# Altium integrated library WE-CST_rev15a.intlib: 8 symbols
Pins are listed as number, name and electrical type; pins without a type are passive.

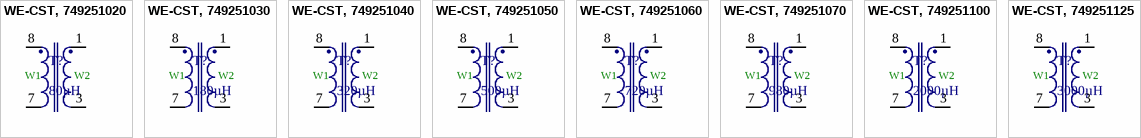
[diagram p0: symbols WE-CST, 749251020 to WE-CST, 749251125]

## WE-CST, 749251020
designator T?, comment 80µH
Current Sense Transformer WE-CST , L=80µH; PartNo: 749251020; Manufacturer: Würth Elektronik eiSos GmbH; Turns Ratio: 1:20; Nominal Current: 10A; Inductance: 80µH; ComponentLink1Description: Manufacturer; ComponentLink1URL: http://www.we-online.de; Created by: Otto Christin; Created Date: OCT 2013; ComponentLink2Description: Datasheet; ComponentLink2URL: http://www.we-online.de/katalog/media/pdf/749251020.pdf
footprint EE5 (SMD, 6-Leads, Body 7.2x6.0mm (max), Pitch 1.85mm, IPC Medium Density)
pins: 1, 3, 7, 8
text: W1; W2

## WE-CST, 749251030
designator T?, comment 180µH
Current Sense Transformer WE-CST , L=180µH; PartNo: 749251030; Manufacturer: Würth Elektronik eiSos GmbH; Turns Ratio: 1:30; Nominal Current: 10A; Inductance: 180µH; ComponentLink1Description: Manufacturer; ComponentLink1URL: http://www.we-online.de; Created by: Otto Christin; Created Date: OCT 2013; ComponentLink2Description: Datasheet; ComponentLink2URL: http://www.we-online.de/katalog/media/pdf/749251030.pdf
footprint EE5 (SMD, 6-Leads, Body 7.2x6.0mm (max), Pitch 1.85mm, IPC Medium Density)
pins: 1, 3, 7, 8
text: W1; W2

## WE-CST, 749251040
designator T?, comment 320µH
Current Sense Transformer WE-CST , L=320µH; PartNo: 749251040; Manufacturer: Würth Elektronik eiSos GmbH; Turns Ratio: 1:40; Nominal Current: 10A; Inductance: 320µH; ComponentLink1Description: Manufacturer; ComponentLink1URL: http://www.we-online.de; Created by: Otto Christin; Created Date: OCT 2013; ComponentLink2Description: Datasheet; ComponentLink2URL: http://www.we-online.de/katalog/media/pdf/749251040.pdf
footprint EE5 (SMD, 6-Leads, Body 7.2x6.0mm (max), Pitch 1.85mm, IPC Medium Density)
pins: 1, 3, 7, 8
text: W1; W2

## WE-CST, 749251050
designator T?, comment 500µH
Current Sense Transformer WE-CST , L=500µH; PartNo: 749251050; Manufacturer: Würth Elektronik eiSos GmbH; Turns Ratio: 1:50; Nominal Current: 10A; Inductance: 500µH; ComponentLink1Description: Manufacturer; ComponentLink1URL: http://www.we-online.de; Created by: Otto Christin; Created Date: OCT 2013; ComponentLink2Description: Datasheet; ComponentLink2URL: http://www.we-online.de/katalog/media/pdf/749251050.pdf
footprint EE5 (SMD, 6-Leads, Body 7.2x6.0mm (max), Pitch 1.85mm, IPC Medium Density)
pins: 1, 3, 7, 8
text: W1; W2

## WE-CST, 749251060
designator T?, comment 720µH
Current Sense Transformer WE-CST , L=720µH; PartNo: 749251060; Manufacturer: Würth Elektronik eiSos GmbH; Turns Ratio: 1:60; Nominal Current: 10A; Inductance: 720µH; ComponentLink1Description: Manufacturer; ComponentLink1URL: http://www.we-online.de; Created by: Otto Christin; Created Date: OCT 2013; ComponentLink2Description: Datasheet; ComponentLink2URL: http://www.we-online.de/katalog/media/pdf/749251060.pdf
footprint EE5 (SMD, 6-Leads, Body 7.2x6.0mm (max), Pitch 1.85mm, IPC Medium Density)
pins: 1, 3, 7, 8
text: W1; W2

## WE-CST, 749251070
designator T?, comment 980µH
Current Sense Transformer WE-CST , L=980µH; PartNo: 749251070; Manufacturer: Würth Elektronik eiSos GmbH; Turns Ratio: 1:70; Nominal Current: 10A; Inductance: 980µH; ComponentLink1Description: Manufacturer; ComponentLink1URL: http://www.we-online.de; Created by: Otto Christin; Created Date: OCT 2013; ComponentLink2Description: Datasheet; ComponentLink2URL: http://www.we-online.de/katalog/media/pdf/749251070.pdf
footprint EE5 (SMD, 6-Leads, Body 7.2x6.0mm (max), Pitch 1.85mm, IPC Medium Density)
pins: 1, 3, 7, 8
text: W1; W2

## WE-CST, 749251100
designator T?, comment 2000µH
Current Sense Transformer WE-CST , L=2000µH; PartNo: 749251100; Manufacturer: Würth Elektronik eiSos GmbH; Turns Ratio: 1:100; Nominal Current: 10A; Inductance: 2000µH; ComponentLink1Description: Manufacturer; ComponentLink1URL: http://www.we-online.de; Created by: Otto Christin; Created Date: OCT 2013; ComponentLink2Description: Datasheet; ComponentLink2URL: http://www.we-online.de/katalog/media/pdf/749251100.pdf
footprint EE5 (SMD, 6-Leads, Body 7.2x6.0mm (max), Pitch 1.85mm, IPC Medium Density)
pins: 1, 3, 7, 8
text: W1; W2

## WE-CST, 749251125
designator T?, comment 3000µH
Current Sense Transformer WE-CST , L=3000µH; PartNo: 749251125; Manufacturer: Würth Elektronik eiSos GmbH; Turns Ratio: 1:125; Nominal Current: 10A; Inductance: 3000µH; ComponentLink1Description: Manufacturer; ComponentLink1URL: http://www.we-online.de; Created by: Otto Christin; Created Date: OCT 2013; ComponentLink2Description: Datasheet; ComponentLink2URL: http://www.we-online.de/katalog/media/pdf/749251125.pdf
footprint EE5 (SMD, 6-Leads, Body 7.2x6.0mm (max), Pitch 1.85mm, IPC Medium Density)
pins: 1, 3, 7, 8
text: W1; W2